# Altium footprint library X2QFN40P160X160X40-12N.PcbLib: 1 footprints
Each footprint in its own frame and in the unit in brackets; x right, y up, seen from the top. Pads: shape width x height; smd on the part's side, far side on the other; paste and mask are expansions set on the pad; w line width, h text height; cw(c..) or ccw(c..) is an arc to the next point about the centre after c.
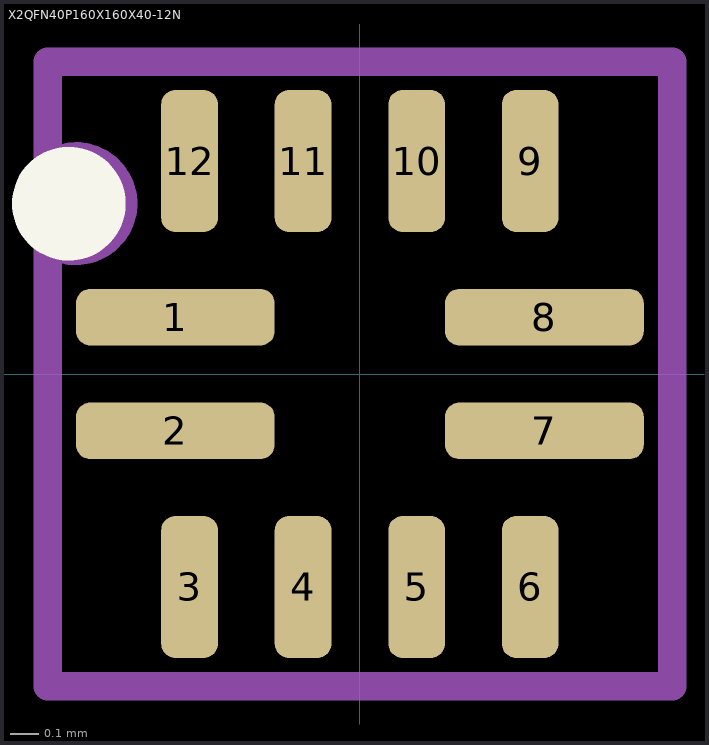
[diagram p0: the footprint, top view; thin cyan lines are the x and y axes]

## X2QFN40P160X160X40-12N [mm]
pads (12):
  rrect50% 0.7x0.2 smd mask+0.03: 1(-0.65,0.2) 2(-0.65,-0.2) 7(0.65,-0.2) 8(0.65,0.2)
  rrect50% 0.2x0.5 smd mask+0.03: 3(-0.6,-0.75) 4(-0.2,-0.75) 5(0.2,-0.75) 6(0.6,-0.75) 9(0.6,0.75) 10(0.2,0.75) 11(-0.2,0.75) 12(-0.6,0.75)
Top Overlay:
  circle w0.25: c-1.025,0.6 r0.075
Top Assembly:
  circle w0.15: c-1,0.6 r0.141
  lines w0.1: -1.1,-1.1 -1.1,1.1 1.1,1.1 1.1,-1.1 -1.1,-1.1
  text "'.Designator'" at -0.575,-0.042 h0.1
Top Courtyard:
  lines w0.1: -1.1,-1.1 -1.1,1.1 1.1,1.1 1.1,-1.1 -1.1,-1.1
3D body "RWB0012A.stp": height 0.4, standoff 0, extent -0.8,-0.8 0.8,0.8